# Altium schematic symbol library OR_Gate_TI_SN74AHC1G32DRLR.SchLib: 1 symbol
Pins are listed as number, name and electrical type; pins without a type are passive.

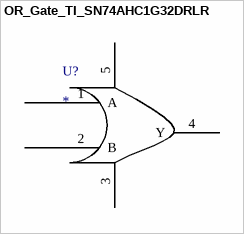
[diagram p0: symbol OR_Gate_TI_SN74AHC1G32DRLR]

## OR_Gate_TI_SN74AHC1G32DRLR
designator U?
pins: 1 A, 2 B, 3, 4 Y, 5